# Altium footprint library GC-PcbLib1.PcbLib: 22 footprints (part 1 of 2)
Each footprint in its own frame and in the unit in brackets; x right, y up, seen from the top. Pads: shape width x height; smd on the part's side, far side on the other; paste and mask are expansions set on the pad; w line width, h text height; cw(c..) or ccw(c..) is an arc to the next point about the centre after c.
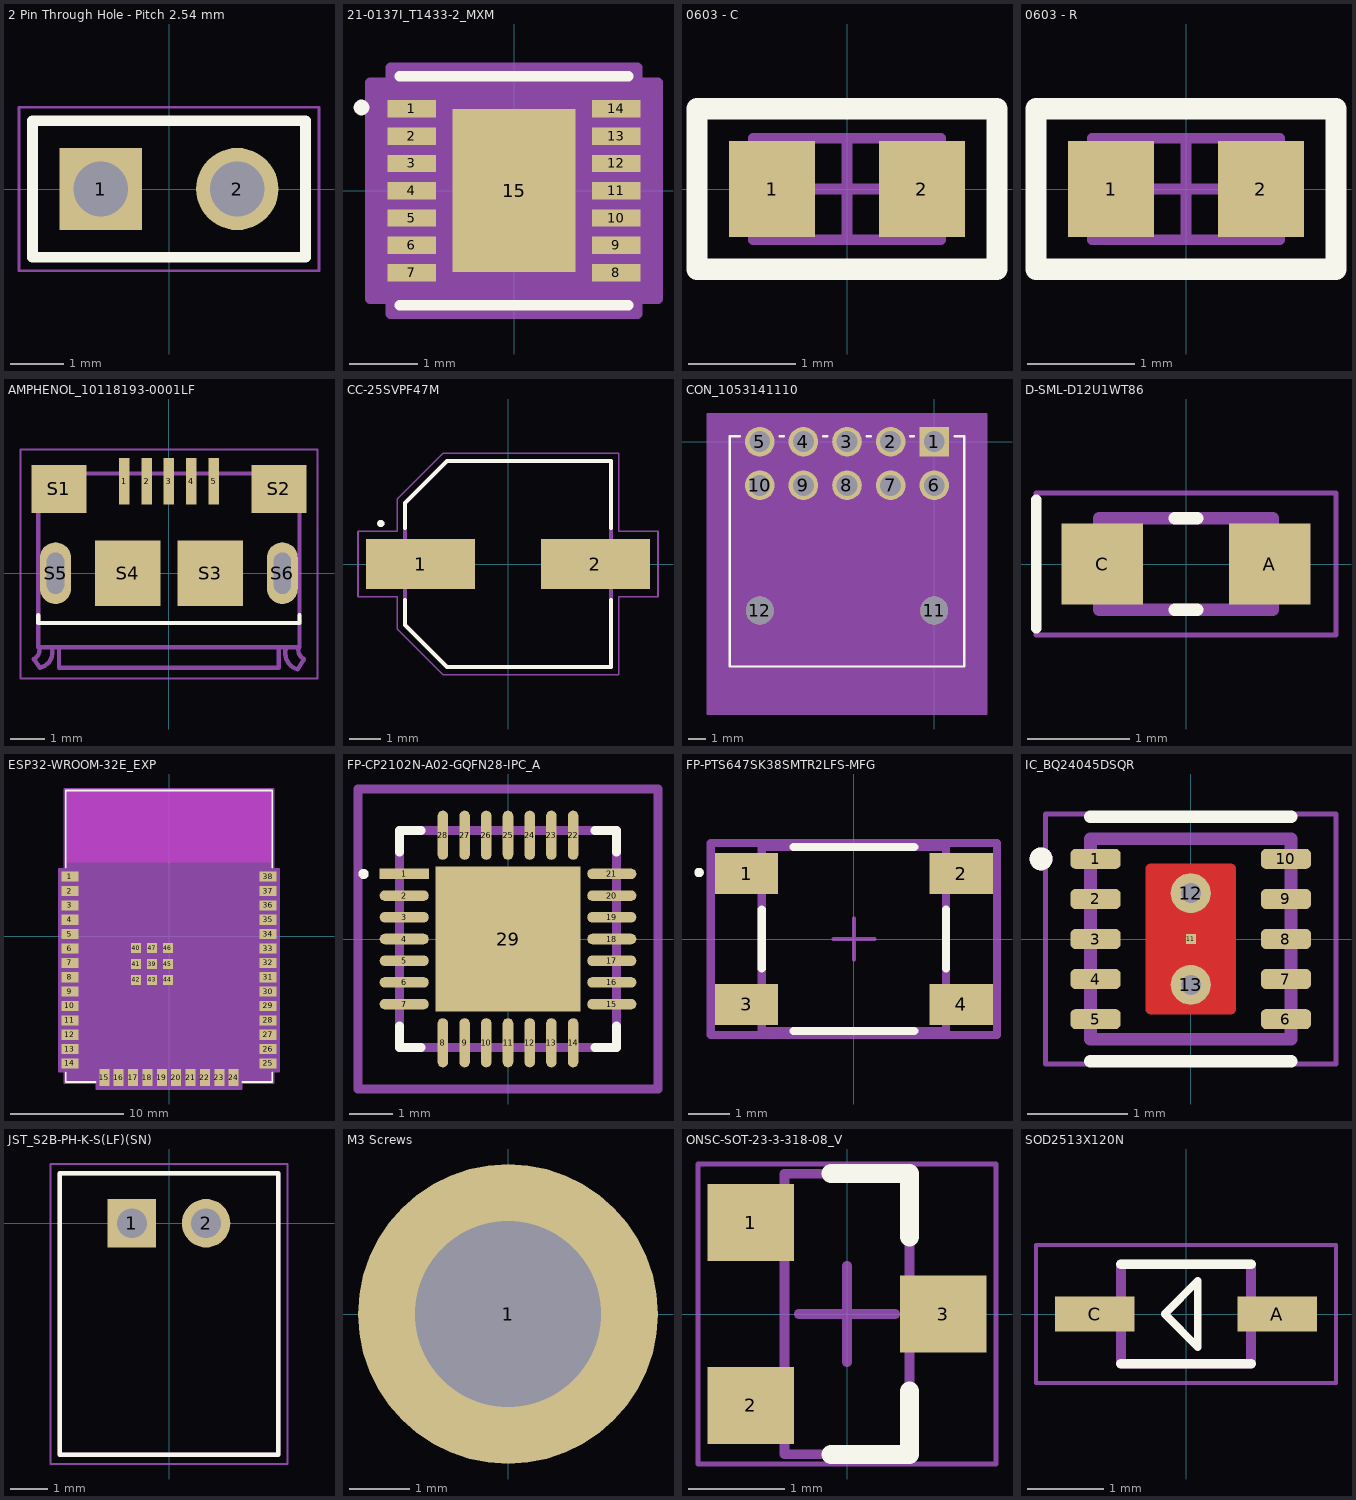
[diagram p0: the footprints below, top view; thin cyan lines are the x and y axes]

## 2 Pin Through Hole - Pitch 2.54 mm [mm]
pads (2):
  rect 1.53x1.53 / inner round 1.53 / far side rect 1.53x1.53 hole 1.02: 1(-1.27,0)
  round 1.53 hole 1.02: 2(1.27,0)
Top Overlay:
  lines w0.2: -2.54,-1.27 2.54,-1.27 2.54,1.27 -2.54,1.27 -2.54,-1.27
Top 3D Body:
  lines w0.1: -2.54,-1.27 2.54,-1.27 2.54,1.27 -2.54,1.27 -2.54,-1.27
Top Courtyard:
  lines w0.05: -2.79,-1.52 2.79,-1.52 2.79,1.52 -2.79,1.52 -2.79,-1.52
3D body "61300211121.stp": height 7.27, standoff -4.27, extent -2.515,-1.194 2.565,1.346

## 21-0137I_T1433-2_MXM [mil]
pads (15):
  rect 28x10 smd paste+0 mask+0: 1(-59,47.24) 2(-59,31.5) 3(-59,15.75) 4(-59,0) 5(-59,-15.75) 6(-59,-31.5) 7(-59,-47.24) 8(59,-47.24) 9(59,-31.5) 10(59,-15.75) 11(59,0) 12(59,15.75) 13(59,31.5) 14(59,47.24)
  rect 71x94 smd paste+0 mask+0: 15(0,0)
Top Overlay:
  circle w5: c-88,48 r2
  lines w6: -66,-66 66,-66 ; -66,66 66,66
Top Paste:
  region: 35.5,47 -35.5,47 -35.5,-47 35.5,-47
Top 3D Body:
  lines w0: -12,61 ccw(c0,61) 12,61
  lines w1: -61,-61 61,-61 61,61 -61,61 -61,-61
Top Courtyard:
  region: -71,-62.24 -83,-62.24 -83,62.24 -71,62.24 -71,71 71,71 71,62.24 83,62.24 83,-62.24 71,-62.24 71,-71 -71,-71
  lines w6: -83,-62.24 -83,62.24 -71,62.24 -71,71 71,71 71,62.24 83,62.24 83,-62.24 71,-62.24 71,-71 -71,-71 -71,-62.24 -83,-62.24
3D body "21-0137I_T1433-2_MXM.step": height 32.09, standoff 0, extent -60.98,-60.98 60.98,60.98

## 0603 - C [mm]
pads (2):
  rect 0.8x0.9 smd: 1(-0.7,0) 2(0.7,0)
Top Overlay:
  lines w0.2: -1.4,-0.75 -1.4,0.75 1.4,0.75 1.4,-0.75 -1.4,-0.75
Top 3D Body:
  lines w0.1: -0.875,-0.475 -0.875,0.475 0.875,0.475 0.875,-0.475 -0.875,-0.475
  text ".Designator" at 0,0 h1
Top Courtyard:
  lines w0.1: -0.475,0 0.475,0 ; 0,-0.475 0,0.475 ; -1.4,-0.75 1.4,-0.75 1.4,0.75 -1.4,0.75 -1.4,-0.75
3D body "0603.step": height 0.8, standoff 0, extent -0.8,-0.406 0.8,0.394

## 0603 - R [mm]
pads (2):
  rect 0.8x0.9 smd: 1(-0.7,0) 2(0.7,0)
Top Overlay:
  lines w0.2: -1.4,-0.75 -1.4,0.75 1.4,0.75 1.4,-0.75 -1.4,-0.75
Top 3D Body:
  lines w0.1: -0.875,-0.475 0.875,-0.475 0.875,0.475 -0.875,0.475 -0.875,-0.475
  text ".Designator" at 0,0 h1
Top Courtyard:
  lines w0.1: -0.475,0 0.475,0 ; 0,-0.475 0,0.475 ; -1.4,-0.75 -1.4,0.75 1.4,0.75 1.4,-0.75 -1.4,-0.75
3D body "0603 (1).step": height 0.45, standoff 0, extent -0.775,-0.4 0.825,0.4

## AMPHENOL_10118193-0001LF [mm]
height 2.55
pads (11):
  rect 0.305x1.35 smd: 1(-1.3,2.675) 2(-0.65,2.675) 3(0,2.675) 4(0.65,2.675) 5(1.3,2.675)
  rect 1.6x1.4 smd: S1(-3.2,2.45) S2(3.2,2.45)
  rect 1.9x1.9 smd: S3(1.2,0) S4(-1.2,0)
  oval 0.9x1.8 hole 0.5 slot 1.2 at 90 deg: S5(-3.3,0) S6(3.3,0)
Top Overlay:
  lines w0.127: -3.8,-1.22 -3.8,-1.45 3.8,-1.45 3.8,-1.22
Top 3D Body:
  lines w0.127: -3.93,-2.5 -3.75,-2.75 ; -3.93,-2.5 ccw(c-4.065,-2.235) -3.8,-2.1 ; -3.8,-1.45 3.8,-1.45 3.8,-2.15 -3.8,-2.15 -3.8,-2.1 ; -3.746,-2.749 ccw(c-3.85,-2.3) -3.401,-2.196 ; -3.2,-2.2 -3.2,-2.75 3.2,-2.75 3.2,-2.2 ; 3.401,-2.198 ccw(c3.875,-2.325) 3.748,-2.799 ; 3.75,-2.8 3.93,-2.5 ; 3.8,-2.1 ccw(c4.065,-2.235) 3.93,-2.5 ; 3.81,-1.397 3.8,-1.397 3.8,2.9 -3.8,2.9 -3.8,-2.1
Top Courtyard:
  lines w0.05: -4.32,-3.066 -4.32,3.6 4.32,3.6 4.32,-3.066 -4.32,-3.066
3D body "step_temp.STEP": height 3.18, standoff -0.43, extent -3.92,-2.703 3.937,2.957

## CC-25SVPF47M [mm]
pads (2):
  rect 3.5x1.6 smd: 1(-2.8,0) 2(2.8,0)
Top Overlay:
  circle w0.127: c-4.071,1.295 r0.051
  lines w0.127: -3.3,-1.15 -3.3,-1.95 -1.95,-3.3 3.3,-3.3 3.3,-1.15 ; -3.3,1.15 -3.3,1.95 -1.95,3.3 3.3,3.3 3.3,1.15
Top 3D Body:
  circle w0.127: c-4.071,1.295 r0.051
  lines w0.127: -3.3,-1.95 -3.3,1.95 -1.95,3.3 3.3,3.3 3.3,-3.3 -1.95,-3.3 -3.3,-1.95
Top Courtyard:
  lines w0.05: -4.8,-1.05 -4.8,1.05 -3.55,1.05 -3.55,2.075 -2.075,3.55 3.55,3.55 3.55,1.05 4.8,1.05 4.8,-1.05 3.55,-1.05 3.55,-3.55 -2.075,-3.55 -3.55,-2.075 -3.55,-1.05 -4.8,-1.05
3D body "25SVPF47M.STEP": height 5.9, standoff 0, extent -3.65,-3.3 3.65,3.3

## CON_1053141110 [mm]
pads (12):
  rect 1.7x1.7 / inner round 1.524 / far side rect 1.7x1.7 hole 1.2 paste-0.85 mask+0.076: 1(0,0)
  round 1.7 / inner round 1.524 / far side round 1.7 hole 1.2 paste-0.85 mask+0.076: 2(-2.5,0) 3(-5,0) 4(-7.5,0) 5(-10,0) 6(0,-2.5) 7(-2.5,-2.5) 8(-5,-2.5) 9(-7.5,-2.5) 10(-10,-2.5)
  round 1.6 / inner round 1.524 / far side round 1.6 hole 1.6 unplated paste-0.8 mask+0.076: 11(0,-9.68) 12(-10,-9.68)
Top Overlay:
  lines w0.127: -11.128,0.31 -11.72,0.31 -11.72,-12.88 1.72,-12.88 1.72,0.31 1.17,0.31 ; -8.872,0.31 -8.628,0.31 ; -6.372,0.31 -6.128,0.31 ; -3.872,0.31 -3.628,0.31 ; -1.372,0.31 -1.17,0.31
Top 3D Body:
  lines w0.127: -11.72,-14.34 -11.72,0.318 1.72,0.318 1.72,-14.34 -11.72,-14.34
Top Courtyard:
  region: 2.99,1.588 -12.99,1.588 -12.99,-15.61 2.99,-15.61
  lines w0.127: -12.99,-15.61 2.99,-15.61 2.99,1.588 -12.99,1.588 -12.99,-15.61

## D-SML-D12U1WT86 [mm]
pads (2):
  rect 0.8x0.8 smd: A(0.825,0) C(-0.825,0)
Top Overlay:
  lines w0.1: -1.473,-0.635 -1.473,0.635
  lines w0.127: -0.11,-0.45 0.11,-0.45 ; -0.11,0.45 0.11,0.45
Top 3D Body:
  lines w0.127: -0.85,-0.45 -0.85,0.45 0.85,0.45 0.85,-0.45 -0.85,-0.45
Top Courtyard:
  lines w0.05: -1.475,-0.7 -1.475,0.7 1.475,0.7 1.475,-0.7 -1.475,-0.7
3D body "SML-D12U1WT86.STEP": height 0.55, standoff 0, extent -0.8,-0.4 0.8,0.4

## ESP32­WROOM­32E_EXP [mil]
pads (47):
  rect 59x35 smd paste+0 mask+0: 1(-344.5,207.1) 2(-344.5,157.1) 3(-344.5,107.1) 4(-344.5,57.1) 5(-344.5,7.1) 6(-344.5,-42.9) 7(-344.5,-92.9) 8(-344.5,-142.9) 9(-344.5,-192.9) 10(-344.5,-242.9) 11(-344.5,-292.9) 12(-344.5,-342.9) 13(-344.5,-392.9) 14(-344.5,-442.9) 25(344.5,-442.9) 26(344.5,-392.9) 27(344.5,-342.9) 28(344.5,-292.9) 29(344.5,-242.9) 30(344.5,-192.9) 31(344.5,-142.9) 32(344.5,-92.9) 33(344.5,-42.9) 34(344.5,7.1) 35(344.5,57.1) 36(344.5,107.1) 37(344.5,157.1) 38(344.5,207.1)
  rect 35x59 smd paste+0 mask+0: 15(-225,-492.15) 16(-175,-492.15) 17(-125,-492.15) 18(-75,-492.15) 19(-25,-492.15) 20(25,-492.15) 21(75,-492.15) 22(125,-492.15) 23(175,-492.15) 24(225,-492.15)
  rect 35x35 smd paste+0 mask+0: 39(-59.1,-96.9) 40(-114.2,-41.8) 41(-114.2,-96.9) 42(-114.2,-152) 43(-59.1,-152) 44(-4,-152) 45(-4,-96.9) 46(-4,-41.8) 47(-59.1,-41.8)
Top Overlay:
  lines w6: -359.5,-473.5 -359.5,-507 -255.6,-507 ; -359.5,237.7 -359.5,507 359.5,507 359.5,237.7 ; 255.6,-507 359.5,-507 359.5,-473.5
Keep-Out Layer:
  region: 354.5,258 354.5,502 -354.5,502 -354.5,258
Top 3D Body:
  lines w1: -354.5,-502 -354.5,502 354.5,502 354.5,-502 -354.5,-502
  text "*" at -302.5,182.1 h50
Top Courtyard:
  region: -364.5,-512 -252.5,-512 -252.5,-531.65 252.5,-531.65 252.5,-512 364.5,-512 364.5,-470.4 384,-470.4 384,234.6 364.5,234.6 364.5,512 -364.5,512 -364.5,234.6 -384,234.6 -384,-470.4 -364.5,-470.4
  lines w6: -384,-470.4 -364.5,-470.4 -364.5,-512 -252.5,-512 -252.5,-531.65 252.5,-531.65 252.5,-512 364.5,-512 364.5,-470.4 384,-470.4 384,234.6 364.5,234.6 364.5,512 -364.5,512 -364.5,234.6 -384,234.6 -384,-470.4
3D body "ESP32-WROOM-32D--3DModel-STEP-510211.STEP": height 127.95, standoff 0, extent -352.33,-502 356.33,501.94

## FP-CP2102N-A02-GQFN28-IPC_A [mm]
pads (29):
  rect 1.131x0.242 smd paste+0 mask+0: 1(-2.391,1.5)
  rrect100% 1.131x0.242 smd paste+0 mask+0: 2(-2.391,1) 3(-2.391,0.5) 4(-2.391,0) 5(-2.391,-0.5) 6(-2.391,-1) 7(-2.391,-1.5) 15(2.391,-1.5) 16(2.391,-1) 17(2.391,-0.5) 18(2.391,0) 19(2.391,0.5) 20(2.391,1) 21(2.391,1.5)
  rrect100% 0.242x1.131 smd paste+0 mask+0: 8(-1.5,-2.391) 9(-1,-2.391) 10(-0.5,-2.391) 11(0,-2.391) 12(0.5,-2.391) 13(1,-2.391) 14(1.5,-2.391) 22(1.5,2.391) 23(1,2.391) 24(0.5,2.391) 25(0,2.391) 26(-0.5,2.391) 27(-1,2.391) 28(-1.5,2.391)
  rect 3.35x3.35 smd paste-1000 mask+0: 29(0,0)
Top Overlay:
  circle w0.127: c-3.327,1.499 r0.051
  lines w0.2: -2.5,-2 -2.5,-2.5 -2,-2.5 ; -2.5,2 -2.5,2.5 -2,2.5 ; 2,-2.5 2.5,-2.5 2.5,-2 ; 2,2.5 2.5,2.5 2.5,2
Top Paste:
  rectangle: -1.059,-1.059 1.059,1.059
Top Assembly:
  lines w0.2: -3.456,-3.456 -3.456,3.456 3.456,3.456 3.456,-3.456 -3.456,-3.456
  text ".Designator" at 0,0.189 h1
Top 3D Body:
  lines w0.2: -2.5,-2.5 -2.5,2.5 2.5,2.5 2.5,-2.5 -2.5,-2.5
Top Courtyard:
  lines w0.2: -3.456,-3.456 -3.456,3.456 3.456,3.456 3.456,-3.456 -3.456,-3.456
Top Component Center:
  lines w0.1: -0.5,0 0.5,0 ; 0,-0.5 0,0.5
3D body "IC_Silicon_Labs_CP2102N-A02-GQFN28_eec.STEP": height 0.25, standoff 0, extent -3.456,-3.456 3.456,3.456

## FP-PTS647SK38SMTR2LFS-MFG [mm]
pads (4):
  rect 1.55x1 smd paste+0 mask+0: 1(-2.625,1.6) 2(2.625,1.6) 3(-2.625,-1.6) 4(2.625,-1.6)
Top Overlay:
  circle w0.127: c-3.785,1.626 r0.051
  lines w0.2: -2.25,-0.725 -2.25,0.725 ; -1.475,-2.25 1.475,-2.25 ; -1.475,2.25 1.475,2.25 ; 2.25,-0.725 2.25,0.725
Top Assembly:
  lines w0.2: -3.5,-2.35 3.5,-2.35 3.5,2.35 -3.5,2.35 -3.5,-2.35
  text ".Designator" at 0,0.189 h1
Top 3D Body:
  lines w0.2: -2.25,-2.25 2.25,-2.25 2.25,2.25 -2.25,2.25 -2.25,-2.25
Top Courtyard:
  lines w0.2: -3.5,-2.35 3.5,-2.35 3.5,2.35 -3.5,2.35 -3.5,-2.35
Top Component Center:
  lines w0.1: -0.5,0 0.5,0 ; 0,-0.5 0,0.5
3D body "Switch_C&K_Components_PTS647SK38SMTR2LFS_eec.STEP": height 0.25, standoff 0, extent -3.5,-2.35 3.5,2.35

## IC_BQ24045DSQR [mm]
height 0.8
pads (13):
  rrect50% 0.5x0.2 smd mask+0: 1(-0.95,0.8) 2(-0.95,0.4) 3(-0.95,0) 4(-0.95,-0.4) 5(-0.95,-0.8) 6(0.95,-0.8) 7(0.95,-0.4) 8(0.95,0) 9(0.95,0.4) 10(0.95,0.8)
  rect 0.1x0.1 smd paste-1 mask+0: 11(0,0)
  round 0.4 hole 0.2 mask+0: 12(0,0.457) 13(0,-0.457)
Top Layer:
  region: 0.408,0.749 0.41,0.749 0.413,0.748 0.415,0.748 0.418,0.747 0.42,0.746 0.423,0.745 0.425,0.743 0.427,0.742 0.429,0.74 0.431,0.739 0.433,0.737 0.435,0.735 0.437,0.733 0.439,0.731 0.44,0.729 0.442,0.727 0.443,0.725 0.445,0.723 0.446,0.72 0.447,0.718 0.448,0.715 0.448,0.713 0.449,0.71 0.449,0.708 0.45,0.705 0.45,0.703 0.45,0.7 0.45,-0.7 0.45,-0.703 0.45,-0.705 0.449,-0.708 0.449,-0.71 0.448,-0.713 0.448,-0.715 0.447,-0.718 0.446,-0.72 0.445,-0.723 0.443,-0.725 0.442,-0.727 0.44,-0.729 0.439,-0.731 0.437,-0.733 0.435,-0.735 0.433,-0.737 0.431,-0.739 0.429,-0.74 0.427,-0.742 0.425,-0.743 0.423,-0.745 0.42,-0.746 0.418,-0.747 0.415,-0.748 0.413,-0.748 0.41,-0.749 0.408,-0.749 0.405,-0.75 -0.405,-0.75 -0.408,-0.749 -0.41,-0.749 -0.413,-0.748 -0.415,-0.748 -0.418,-0.747 -0.42,-0.746 -0.423,-0.745 -0.425,-0.743 -0.427,-0.742 -0.429,-0.74 -0.431,-0.739 -0.433,-0.737 -0.435,-0.735 -0.437,-0.733 -0.439,-0.731 -0.44,-0.729 -0.442,-0.727 -0.443,-0.725 -0.445,-0.723 -0.446,-0.72 -0.447,-0.718 -0.448,-0.715 -0.448,-0.713 -0.449,-0.71 -0.449,-0.708 -0.45,-0.705 -0.45,-0.703 -0.45,-0.7 -0.45,0.7 -0.45,0.703 -0.45,0.705 -0.449,0.708 -0.449,0.71 -0.448,0.713 -0.448,0.715 -0.447,0.718 -0.446,0.72 -0.445,0.723 -0.443,0.725 -0.442,0.727 -0.44,0.729 -0.439,0.731 -0.437,0.733 -0.435,0.735 -0.433,0.737 -0.431,0.739 -0.429,0.74 -0.427,0.742 -0.425,0.743 -0.423,0.745 -0.42,0.746 -0.418,0.747 -0.415,0.748 -0.413,0.748 -0.41,0.749 -0.408,0.749 -0.405,0.75 0.405,0.75
Top Overlay:
  circle w0.127: c-1.494,0.8 r0.051
  lines w0.127: -1,-1.22 1,-1.22 ; -1,1.22 1,1.22
Top Paste:
  region: 0.383,0.689 0.385,0.689 0.388,0.688 0.39,0.688 0.393,0.687 0.395,0.686 0.398,0.685 0.4,0.683 0.402,0.682 0.404,0.68 0.406,0.679 0.408,0.677 0.41,0.675 0.412,0.673 0.414,0.671 0.415,0.669 0.417,0.667 0.418,0.665 0.42,0.663 0.421,0.66 0.422,0.658 0.423,0.655 0.423,0.653 0.424,0.65 0.424,0.648 0.425,0.645 0.425,0.643 0.425,0.64 0.425,-0.64 0.425,-0.643 0.425,-0.645 0.424,-0.648 0.424,-0.65 0.423,-0.653 0.423,-0.655 0.422,-0.658 0.421,-0.66 0.42,-0.663 0.418,-0.665 0.417,-0.667 0.415,-0.669 0.414,-0.671 0.412,-0.673 0.41,-0.675 0.408,-0.677 0.406,-0.679 0.404,-0.68 0.402,-0.682 0.4,-0.683 0.398,-0.685 0.395,-0.686 0.393,-0.687 0.39,-0.688 0.388,-0.688 0.385,-0.689 0.383,-0.689 0.38,-0.69 -0.38,-0.69 -0.383,-0.689 -0.385,-0.689 -0.388,-0.688 -0.39,-0.688 -0.393,-0.687 -0.395,-0.686 -0.398,-0.685 -0.4,-0.683 -0.402,-0.682 -0.404,-0.68 -0.406,-0.679 -0.408,-0.677 -0.41,-0.675 -0.412,-0.673 -0.414,-0.671 -0.415,-0.669 -0.417,-0.667 -0.418,-0.665 -0.42,-0.663 -0.421,-0.66 -0.422,-0.658 -0.423,-0.655 -0.423,-0.653 -0.424,-0.65 -0.424,-0.648 -0.425,-0.645 -0.425,-0.643 -0.425,-0.64 -0.425,0.64 -0.425,0.643 -0.425,0.645 -0.424,0.648 -0.424,0.65 -0.423,0.653 -0.423,0.655 -0.422,0.658 -0.421,0.66 -0.42,0.663 -0.418,0.665 -0.417,0.667 -0.415,0.669 -0.414,0.671 -0.412,0.673 -0.41,0.675 -0.408,0.677 -0.406,0.679 -0.404,0.68 -0.402,0.682 -0.4,0.683 -0.398,0.685 -0.395,0.686 -0.393,0.687 -0.39,0.688 -0.388,0.688 -0.385,0.689 -0.383,0.689 -0.38,0.69 0.38,0.69
Top Solder:
  drawing of 11 lines, arcs and shapes, not listed
Top 3D Body:
  circle w0.127: c-1.494,0.8 r0.051
  lines w0.127: -1,-1 1,-1 1,1 -1,1 -1,-1
Top Courtyard:
  lines w0.05: -1.45,-1.25 -1.45,1.25 1.45,1.25 1.45,-1.25 -1.45,-1.25
3D body "BQ24045DSQR--3DModel-STEP-56544.STEP": height 0.8, standoff 0, extent -1.016,-1.009 0.984,0.991

## JST_S2B-PH-K-S(LF)(SN) [mm]
height 4.8
pads (2):
  rect 1.308x1.308 / inner round 1.308 / far side rect 1.308x1.308 hole 0.8: 1(-1,0)
  round 1.308 hole 0.8: 2(1,0)
Top Overlay:
  lines w0.127: -2.95,-6.25 2.95,-6.25 2.95,1.35 -2.95,1.35 -2.95,-6.25
Top 3D Body:
  lines w0.127: -2.95,-6.25 2.95,-6.25 2.95,1.35 -2.95,1.35 -2.95,-6.25
Top Courtyard:
  lines w0.05: -3.2,-6.5 3.2,-6.5 3.2,1.6 -3.2,1.6 -3.2,-6.5
3D body "step_temp.STEP": height 4.8, standoff -3.38, extent -2.979,-6.213 2.921,1.387

## M3 Screws [mm]
pads (1):
  round 5 hole 3.1: 1(0,0)
3D body "92000A011_Passivated 18-8 Stainless Steel Pan Head Phillips Screws.STEP": height 1.71, standoff -3.9, extent -2,-2 2,2

## ONSC-SOT-23-3-318-08_V [mm] "SOT23, 3-Leads, Body 2.92x1.3mm, Pitch 0.95mm"
height 1.11
pads (3):
  rect 0.9x0.8 smd: 1(-1,0.95) 2(-1,-0.95) 3(1,0)
Top Overlay:
  lines w0.2: -0.165,-1.46 0.65,-1.46 0.65,-0.8 ; -0.165,1.46 0.65,1.46 0.65,0.8
Top 3D Body:
  lines w0.1: -0.65,-1.46 0.65,-1.46 0.65,1.46 -0.65,1.46 -0.65,-1.46
Top Courtyard:
  lines w0.05: -1.55,-1.56 1.55,-1.56 1.55,1.56 -1.55,1.56 -1.55,-1.56
  lines w0.1: -0.5,0 0.5,0 ; 0,-0.5 0,0.5
3D body: height 1.11, standoff 0.01, extent -0.65,-1.46 0.65,1.46

## SOD2513X120N [mm]
pads (2):
  rect 1.04x0.46 smd: A(1.19,0) C(-1.19,0)
Top Overlay:
  lines w0.1: -0.279,0 0.152,-0.432 0.152,0.432 -0.279,0
  lines w0.127: -0.85,-0.65 0.85,-0.65 ; -0.85,0.65 0.85,0.65
Top 3D Body:
  lines w0.127: -0.85,-0.65 0.85,-0.65 0.85,0.65 -0.85,0.65 -0.85,-0.65
Top Courtyard:
  lines w0.05: -1.96,-0.9 1.96,-0.9 1.96,0.9 -1.96,0.9 -1.96,-0.9
3D body "BAT760-7.STEP": height 1.2, standoff 0, extent -1.288,-0.637 1.212,0.663